# Altium integrated library AeroXo_Components.IntLib: 13 symbols
Pins are listed as number, name and electrical type; pins without a type are passive.

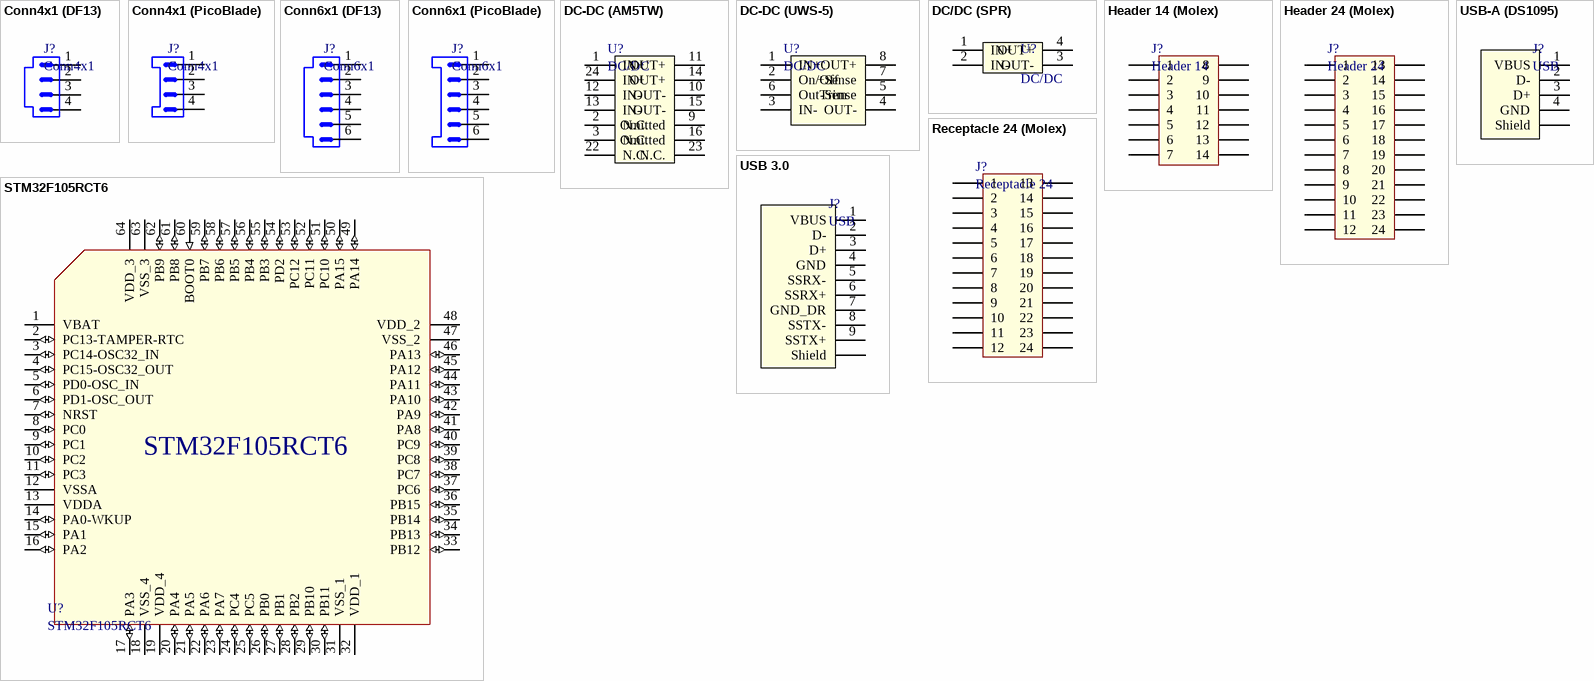
[diagram p0: symbols Conn4x1 (DF13) to USB-A (DS1095)]

## Conn4x1 (DF13)
designator J?, comment Conn4x1
[DF13-4P-1.25H]; Manufacturer: Hirose; Part Number: CL0536-0255-2-75; Type: Connector; ComponentLink1Description: Hirose; ComponentLink1URL: https://www.hirose.com/product/p/CL0536-0253-7-75?lang=ru
footprint DF13-4p-1.25H
pins: 1, 2, 3, 4

## Conn4x1 (PicoBlade)
designator J?, comment Conn4x1
1.25mm Pitch, PicoBlade PCB Header; Manufacturer: Molex; Part Number: 532610471; Type: Connector; ComponentLink1Description: Molex; ComponentLink1URL: https://www.molex.com/molex/products/datasheet.jsp?part=active/0532610471_PCB_HEADERS.xml
footprint PicoBlade-4p-1.25H
pins: 1, 2, 3, 4

## Conn6x1 (DF13)
designator J?, comment Conn6x1
[DF13-6P-1.25H]; Manufacturer: Hirose; Part Number: CL0536-0255-2-75; Type: Connector; ComponentLink1Description: Hirose; ComponentLink1URL: https://www.hirose.com/product/p/CL0536-0255-2-75?lang=ru
footprint DF13-6p-1.25H
pins: 1, 2, 3, 4, 5, 6

## Conn6x1 (PicoBlade)
designator J?, comment Conn6x1
1.25mm Pitch, PicoBlade PCB Header; Manufacturer: Molex; Part Number: 532610671; Type: Connector; ComponentLink1Description: Molex; ComponentLink1URL: https://www.molex.com/molex/products/datasheet.jsp?part=active/0532610671_PCB_HEADERS.xml
footprint PicoBlade-6p-1.25H
pins: 1, 2, 3, 4, 5, 6

## DC-DC (AM5TW)
designator U?, comment DC/DC
[AM5TW-4805SZ]; Part Number: 9000523633; Manufacturer: Aimtec; ComponentLink1Description: Elitan; ComponentLink1URL: https://www.elitan.ru/price/item402138; ComponentLink2Description: Chip&Dip; ComponentLink2URL: https://www.chipdip.ru/product/am5tw-4805sz
footprint AM5TW-4805SZ
pins: 1 IN+ (power), 2 N.C., 3 N.C., 9 Omitted, 10 OUT- (power), 11 OUT+ (power), 12 IN- (power), 13 IN- (power), 14 OUT+ (power), 15 OUT- (power), 16 Omitted, 22 N.C., 23 N.C., 24 IN+ (power)

## DC-DC (UWS-5)
designator U?, comment DC/DC
[UWS-5/10-Q48N-C]; Part Number: 8001356334; Manufacturer: Murata Power Solutions; ComponentLink1Description: Elitan; ComponentLink1URL: https://www.elitan.ru/price/item9330852; ComponentLink2Description: Chip&Dip; ComponentLink2URL: https://www.chipdip.ru/product1/8001356334
footprint UWS-5/10-Q48N-C
pins: 1 IN+ (power), 2 On/Off (power), 3 IN- (power), 4 OUT- (power), 5 -Sense, 6 OutTrim, 7 +Sense, 8 OUT+ (power)

## DC/DC (SPR)
designator U?, comment DC/DC
DC/DC 5V; ComponentLink1Description: Chip&Dip; ComponentLink1URL: https://www.chipdip.ru/product/spr01l-05?from=suggest_product; ComponentLink2Description: DataSheet; ComponentLink2URL: https://static.chipdip.ru/lib/149/DOC003149349.pdf
footprint DC/DC SPR01L-05
pins: 1 IN+, 2 IN-, 3 OUT-, 4 OUT+

## Header 14 (Molex)
designator J?, comment Header 14
Micro-Fit 3.0 Vertical Header, 3.00mm Pitch, Dual Row, 14 Circuits, with PCB Press-fit Metal Retention Clip, Gold, Glow-Wire Capable, Black; Part Number: 430451426; Manufacturer: Molex; ComponentLink1Description: Molex; ComponentLink1URL: https://www.molex.com/molex/products/datasheet.jsp?part=active/0430451426_PCB_HEADERS.xml
footprint Header 14 Molex
pins: 1, 2, 3, 4, 5, 6, 7, 8, 9, 10, 11, 12, 13, 14

## Header 24 (Molex)
designator J?, comment Header 24
Mini-Fit Jr. Vertical Header, 4.20mm Pitch, Dual Row, 24 Circuits, without Snap-in Plastic Peg PCB Lock, Tin, Natural; Part Number: 39288240; Manufacturer: Molex; ComponentLink1Description: Molex; ComponentLink1URL: https://www.molex.com/molex/products/datasheet.jsp?part=active/0039288240_PCB_HEADERS.xml
footprint Header 24 Molex
pins: 1, 2, 3, 4, 5, 6, 7, 8, 9, 10, 11, 12, 13, 14, 15, 16, 17, 18, 19, 20, 21, 22, 23, 24

## Receptacle 24 (Molex)
designator J?, comment Receptacle 24
Mini-Fit Plus PCB Receptacle, 4.20mm Pitch, Dual Row, Vertical, Blind Mating, 24 Circuits, with Snap-in Plastic Peg PCB Lock, PA Polyamide Nylon 6/6, UL 94V-0, Tin (Sn) Over Nickel (Ni) Plating; Part Number: 460102421; Manufacturer: Molex; ComponentLink1Description: Molex; ComponentLink1URL: https://www.molex.com/molex/products/datasheet.jsp?part=active/0460102421_PCB_RECEPTACLES.xml
footprint Receptacle 24 Molex
pins: 1, 2, 3, 4, 5, 6, 7, 8, 9, 10, 11, 12, 13, 14, 15, 16, 17, 18, 19, 20, 21, 22, 23, 24

## STM32F105RCT6
designator U?
MCU ARM 256KB FLASH MEM 64-LQFP; Manufacturer: STMicroelectronics; Part Number: STM32F105RCT6; ComponentLink1Description: DataSheet; ComponentLink1URL: https://static6.arrow.com/aropdfconversion/3fd6bc01359f79a4f9745354b823e6b7c79e203b/2083962039691295cd00220364.pdf; ComponentLink2Description: Chip&Dip; ComponentLink2URL: https://www.chipdip.ru/product0/8001787632; Type: IC
footprint LQFP64
pins: 1 VBAT (power), 2 PC13-TAMPER-RTC (io) "PC13-TAMPER-RTC/PC13/TAMPER-RTC", 3 PC14-OSC32_IN (io) "PC14-OSC32_IN/PC14/OSC32_IN", 4 PC15-OSC32_OUT (io) "PC15-OSC32_OUT/PC15/OSC32_OUT", 5 PD0-OSC_IN (io) "PD0/OSC_IN", 6 PD1-OSC_OUT (io) "PD1/OSC_OUT", 7 NRST (io), 8 PC0 (io) "PC0/ADC12_IN10", 9 PC1 (io) "PC1/ADC12_IN11/ETH_MII_MDC/ETH_RMII_MDC", 10 PC2 (io) "PC2/ADC12_IN12/ETH_MII_TXD2", 11 PC3 (io) "PC3/ADC12_IN13/ETH_MII_TX_CLK", 12 VSSA (power), 13 VDDA (power), 14 PA0-WKUP (io) "PA0-WKUP/PA0/WKUP/USART2_CTS/ADC12_IN0/TIM2_CH1_ETR/TIM5_CH1/ETH_MII_CRS_WKUP", 15 PA1 (io) "PA1/USART2_RTS/ADC12_IN1/TIM5_CH2/TIM2_CH2/ETH_MII_RX_CLK/ETH_RMII_REF_CLK", 16 PA2 (io) "PA2/USART2_TX/TIM5_CH3/ADC12_IN2/TIM2_CH3/ETH_MII_MDIO/ETH_RMII_MDIO", 17 PA3 (io) "PA3/USART2_RX/TIM5_CH4/ADC12_IN3/TIM2_CH4/ETH_MII_COL", 18 VSS_4 (power), 19 VDD_4 (power), 20 PA4 (io) "PA4/SPI1_NSS/DAC_OUT1/USART2_CK/ADC12_IN4/SPI3_NSS/I2S3_WS", 21 PA5 (io) "PA5/SPI1_SCK/DAC_OUT2/ADC12_IN5", 22 PA6 (io) "PA6/SPI1_MISO/ADC12_IN6/TIM3_CH1/TIM1_BKIN", 23 PA7 (io) "PA7/SPI1_MOSI/ADC12_IN7/TIM3_CH2/ETH_MII_RX_DV/ETH_RMII_CRS_DV/TIM1_CH1N", 24 PC4 (io) "PC4/ADC12_IN14/ETH_MII_RXD0/ETH_RMII_RXD0", 25 PC5 (io) "PC5/ADC12_IN15/ETH_MII_RXD1/ETH_RMII_RXD1", 26 PB0 (io) "PB0/ADC12_IN8/TIM3_CH3/ETH_MII_RXD2/TIM1_CH2N", 27 PB1 (io) "PB1/ADC12_IN9/TIM3_CH4/ETH_MII_RXD3/TIM1_CH3N", 28 PB2 (io) "PB2/BOOT1", 29 PB10 (io) "PB10/I2C2_SCL/USART3_TX/ETH_MII_RX_ER/TIM2_CH3", 30 PB11 (io) "PB11/I2C2_SDA/USART3_RX/ETH_MII_TX_EN/ETH_RMII_TX_EN/TIM2_CH4", 31 VSS_1 (power), 32 VDD_1 (power), 33 PB12 (io) "PB12/SPI2_NSS/I2S2_WS/I2C2_SMBA/USART3_CK/TIM1_BKIN/CAN2_RX/ETH_MII_TXD0/ETH_RMII_TXD0", 34 PB13 (io) "PB13/SPI2_SCK/I2S2_CK/USART3_CTS/TIM1_CH1N/CAN2_TX/ETH_MII_TXD1/ETH_RMII_TXD1", 35 PB14 (io) "PB14/SPI2_MISO/TIM1_CH2N/USART3_RTS", 36 PB15 (io) "PB15/SPI2_MOSI/I2S2_SD/TIM1_CH3N", 37 PC6 (io) "PC6/I2S2_MCK/TIM3_CH1", 38 PC7 (io) "PC7/I2S3_MCK/TIM3_CH2", 39 PC8 (io) "PC8/TIM3_CH3", 40 PC9 (io) "PC9/TIM3_CH4", 41 PA8 (io) "PA8/USART1_CK/OTG_FS_SOF/TIM1_CH1/MCO", 42 PA9 (io) "PA9/USART1_TX/TIM1_CH2/OTG_FS_VBUS", 43 PA10 (io) "PA10/USART1_RX/TIM1_CH3/OTG_FS_ID", 44 PA11 (io) "PA11/USART1_CTS/CAN1_RX/TIM1_CH4/OTG_FS_DM", 45 PA12 (io) "PA12/USART1_RTS/OTG_FS_DP/CAN1_TX/TIM1_ETR", 46 PA13 (io) "PA13/JTMS-SWDIO", 47 VSS_2 (power), 48 VDD_2 (power), 49 PA14 (io) "PA14/JTCK-SWCLK", 50 PA15 (io) "PA15/JTDI/SPI3_NSS/I2S3_WS/TIM2_CH1_ETR/SPI1_NSS", 51 PC10 (io) "PC10/UART4_TX/USART3_TX/SPI3_SCK/I2S3_CK", 52 PC11 (io) "PC11/UART4_RX/USART3_RX/SPI3_MISO", 53 PC12 (io) "PC12/UART5_TX/USART3_CK/SPI3_MOSI/I2S3_SD", 54 PD2 (io) "PD2/TIM3_ETR/UART5_RX", 55 PB3 (io) "PB3/JTDO/SPI3_SCK/I2S3_CK/TRACESWO/TIM2_CH2/SPI1_SCK", 56 PB4 (io) "PB4/NJTRST/SPI3_MISO/TIM3_CH1/SPI1_MISO", 57 PB5 (io) "PB5/I2C1_SMBA/SPI3_MOSI/ETH_MII_PPS_OUT/I2S3_SD/ETH_RMII_PPS_OUT/TIM3_CH2/SPI1_MOSI/CAN2_RX", 58 PB6 (io) "PB6/I2C1_SCL/TIM4_CH1/USART1_TX/CAN2_TX", 59 PB7 (io) "PB7/I2C1_SDA/TIM4_CH2/USART1_RX", 60 BOOT0 (in), 61 PB8 (io) "PB8/TIM4_CH3/ETH_MII_TXD3/I2C1_SCL/CAN1_RX", 62 PB9 (io) "PB9/TIM4_CH4/I2C1_SDA/CAN1_TX", 63 VSS_3 (power), 64 VDD_3 (power)

## USB 3.0
designator J?, comment USB
USB 3.0 - A Connector | 1 Port | Side 90 degree Receptacle | Shielded
footprint SS-52000-002; pin to pad 10>A
pins: 1 VBUS, 2 D-, 3 D+, 4 GND, 5 SSRX-, 6 SSRX+, 7 GND_DR, 8 SSTX-, 9 SSTX+, 10 Shield

## USB-A (DS1095)
designator J?, comment USB
[DS1095-01-W]; PartNumber: DS1095-01-WNR0; Manufacturer: Ningbo connfly electronic; ComponentLink1Description: Chip&Dip; ComponentLink1URL: https://www.chipdip.ru/product/usb-a-111?from=suggest_product
footprint DS1095-01-W; pin to pad 5>A
pins: 1 VBUS, 2 D-, 3 D+, 4 GND, 5 Shield